# EAGLE library part ADG609 (library WASP)
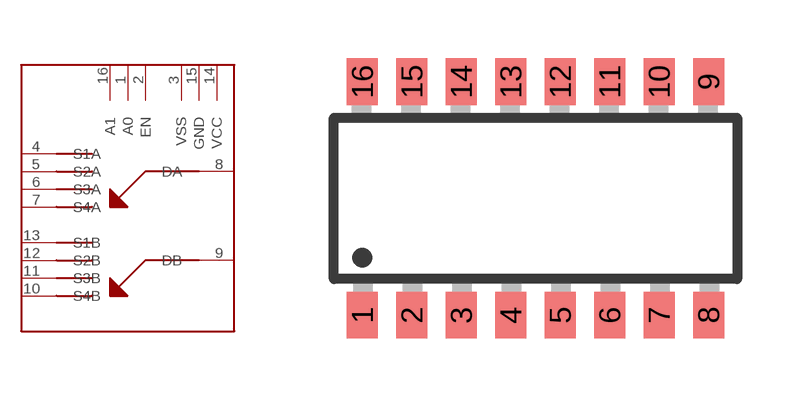
[diagram p5: symbol with the pads of SOP16; footprint SOP16]

Designator prefix -

## ADG609  [SOP16]
1  A0
2  EN
3  VSS
4  S1A
5  S2A
6  S3A
7  S4A
8  DA
9  DB
10  S4B
11  S3B
12  S2B
13  S1B
14  VCC
15  GND
16  A1

## Footprint SOP16 (pad centres in mm)
SOP 16
smd 0.8 x 1.2: 1 -4.445,-3; 2 -3.175,-3; 3 -1.905,-3; 4 -0.635,-3; 5 0.635,-3; 6 1.905,-3; 7 3.175,-3; 8 4.445,-3; 9 4.445,3; 10 3.175,3; 11 1.905,3; 12 0.635,3; 13 -0.635,3; 14 -1.905,3; 15 -3.175,3; 16 -4.445,3